# EAGLE library part RFM69HCW (library icmi-custom-parts)
HopeRF RFM69HCW ISM Transceiver Module The RFM69HCW <http://www.hoperf.com/rf/fsk_module/RFM69HCW.htm> is a transceiver module capable of operation over a wide frequency range, including the 315,433,868 and 915MHz license-free ISM (Industry Scientific and Medical) frequency bands. All major RF communication parameters are programmable and most of them can be dynamically set. The RFM69HCW offers the unique advantage of programmable narrow-band and wide- band communication modes. The RFM69HCW is optimized for low power consumption while offering high RF output power and channelized operation. Compliance ETSI and FCC regulations. In order to better use RFM69HCW modules, this specification also involves a large number of the parameters and functions of its core chip RF69H's,including those IC pins which are not leaded out. All of these can help customers gain a better understanding of the performance of RFM69HCW modules, and enhance the application skills.
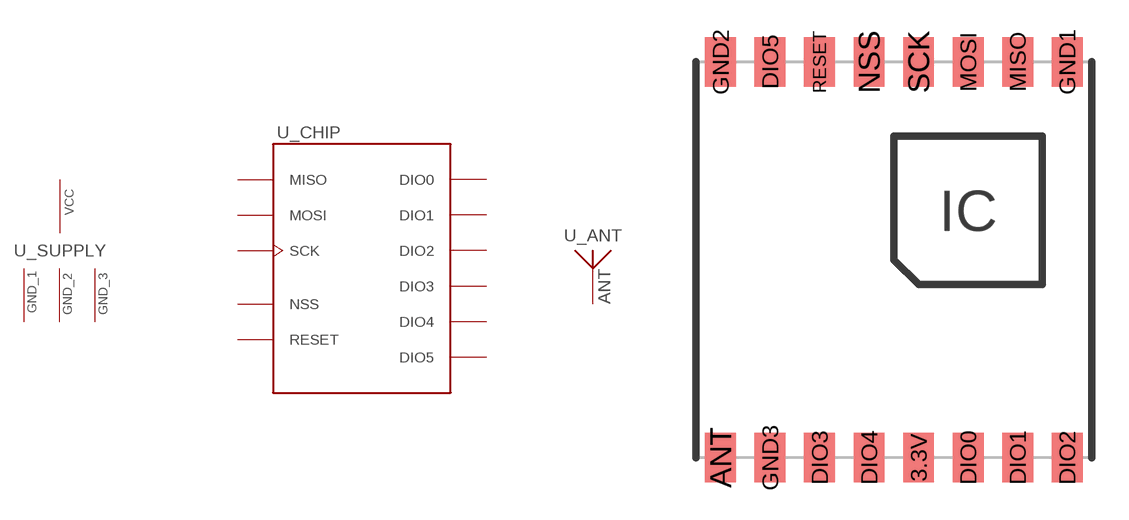
[diagram p2: symbol with the pads of HOPE-RF-16; footprint HOPE-RF-16]

Designator prefix -; gates _ANT=ANTENNA _CHIP=RFM69HCW _SUPPLY=1PWR_3GND

## RFM69HCW-S2  [HOPE-RF-16]
3.3V  _SUPPLY:VCC  pwr
ANT  _ANT:ANT  pas
DIO0  _CHIP:DIO0
DIO1  _CHIP:DIO1
DIO2  _CHIP:DIO2
DIO3  _CHIP:DIO3
DIO4  _CHIP:DIO4
DIO5  _CHIP:DIO5
GND1  _SUPPLY:GND_1  pwr
GND2  _SUPPLY:GND_2  pwr
GND3  _SUPPLY:GND_3  pwr
MISO  _CHIP:MISO  in
MOSI  _CHIP:MOSI  out
NSS  _CHIP:NSS  in
RESET  _CHIP:RESET
SCK  _CHIP:SCK  in

## Footprint HOPE-RF-16 (pad centres in mm)
S2 SMD package for HopeRF RFM 16-pin/pad transceiver modules This is a SMD footprint for the RFM transceiver modules manufactured by HopeRF Electronics (www.hoperf.com). It will fit the 16-pin/pad dedicated transceiver modules such as the RFM69HCW <http://www.hoperf.com/rf/fsk_module/RFM69HCW.htm> and similar modules that use the 16-pin/pad 16x16mm S2 SMD package.
smd 1.25 x 2: 3.3V 1,-8; ANT -7,-8; DIO0 3,-8; DIO1 5,-8; DIO2 7,-8; DIO3 -3,-8; DIO4 -1,-8; DIO5 -5,8; GND1 7,8; GND2 -7,8; GND3 -5,-8; MISO 5,8; MOSI 3,8; NSS -1,8; RESET -3,8; SCK 1,8